# Altium footprint library TH resistors.PcbLib: 92 footprints (part 4 of 6)
Each footprint in its own frame and in the unit in brackets; x right, y up, seen from the top. Pads: shape width x height; smd on the part's side, far side on the other; paste and mask are expansions set on the pad; w line width, h text height; cw(c..) or ccw(c..) is an arc to the next point about the centre after c.
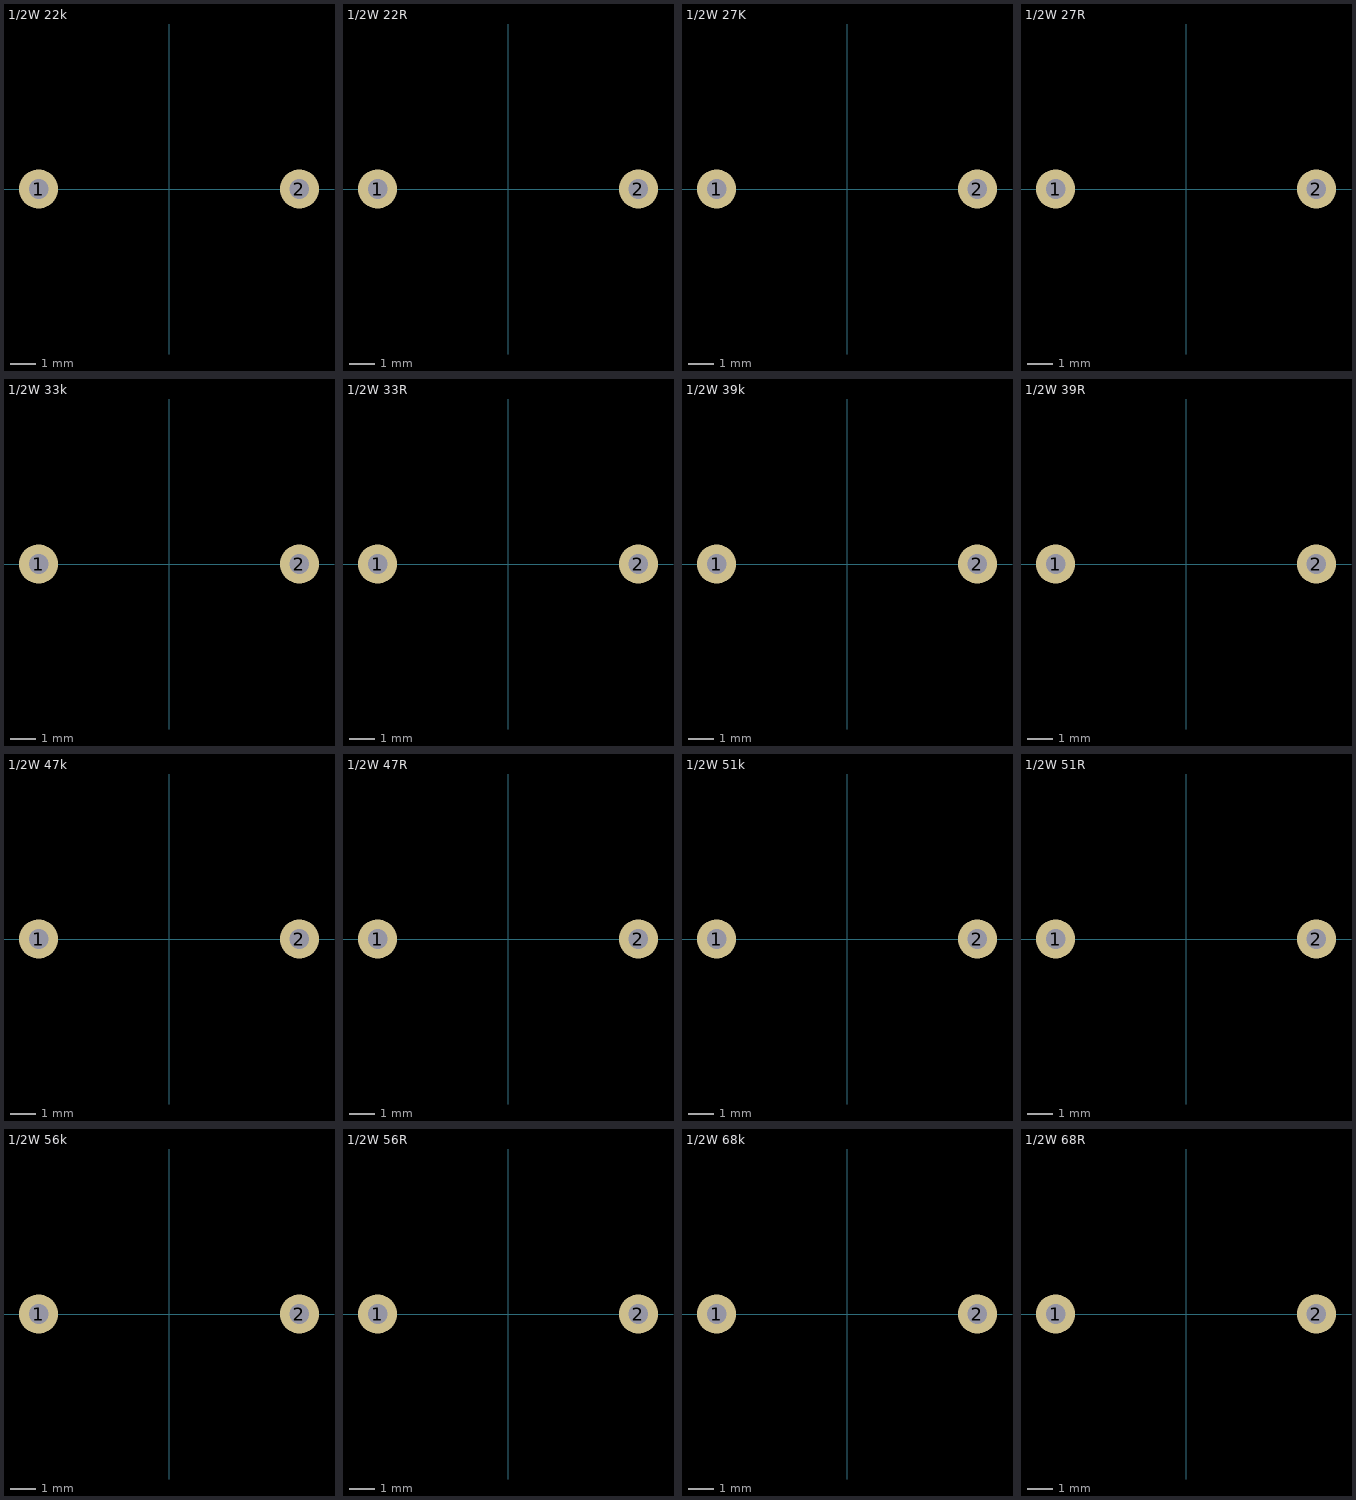
[diagram p3: the footprints below, top view; thin cyan lines are the x and y axes]

## 1/2W 22k [mil]
pads (2):
  round 60 hole 30: 1(-200,0) 2(200,0)
3D body "Resistor Axial 0.5W - Pitch 10.2mm (401.57mil) - 22K.STEP": height 59.06, standoff -206.69, extent -210.63,-59.06 210.63,59.06

## 1/2W 22R [mil]
pads (2):
  round 60 hole 30: 1(-200,0) 2(200,0)
3D body "Resistor Axial 0.5W - Pitch 10.2mm (401.57mil) - 22R.STEP": height 59.06, standoff -206.69, extent -210.63,-59.06 210.63,59.06

## 1/2W 27K [mil]
pads (2):
  round 60 hole 30: 1(-200,0) 2(200,0)
3D body "Resistor Axial 0.5W - Pitch 10.2mm (401.57mil) - 27K.STEP": height 59.06, standoff -206.69, extent -210.63,-59.06 210.63,59.06

## 1/2W 27R [mil]
pads (2):
  round 60 hole 30: 1(-200,0) 2(200,0)
3D body "Resistor Axial 0.5W - Pitch 10.2mm (401.57mil) - 27R.STEP": height 59.06, standoff -206.69, extent -210.63,-59.06 210.63,59.06

## 1/2W 33k [mil]
pads (2):
  round 60 hole 30: 1(-200,0) 2(200,0)
3D body "Resistor Axial 0.5W - Pitch 10.2mm (401.57mil) - 33K.STEP": height 59.06, standoff -206.69, extent -210.63,-59.06 210.63,59.06

## 1/2W 33R [mil]
pads (2):
  round 60 hole 30: 1(-200,0) 2(200,0)
3D body "Resistor Axial 0.5W - Pitch 10.2mm (401.57mil) - 33R.STEP": height 59.06, standoff -206.69, extent -210.63,-59.06 210.63,59.06

## 1/2W 39k [mil]
pads (2):
  round 60 hole 30: 1(-200,0) 2(200,0)
3D body "Resistor Axial 0.5W - Pitch 10.2mm (401.57mil) - 39K.STEP": height 59.06, standoff -206.69, extent -210.63,-59.06 210.63,59.06

## 1/2W 39R [mil]
pads (2):
  round 60 hole 30: 1(-200,0) 2(200,0)
3D body "Resistor Axial 0.5W - Pitch 10.2mm (401.57mil) - 39R.STEP": height 59.06, standoff -206.69, extent -210.63,-59.06 210.63,59.06

## 1/2W 47k [mil]
pads (2):
  round 60 hole 30: 1(-200,0) 2(200,0)
3D body "Resistor Axial 0.5W - Pitch 10.2mm (401.57mil) - 47K.STEP": height 59.06, standoff -206.69, extent -210.63,-59.06 210.63,59.06

## 1/2W 47R [mil]
pads (2):
  round 60 hole 30: 1(-200,0) 2(200,0)
3D body "Resistor Axial 0.5W - Pitch 10.2mm (401.57mil) - 47R.STEP": height 59.06, standoff -206.69, extent -210.63,-59.06 210.63,59.06

## 1/2W 51k [mil]
pads (2):
  round 60 hole 30: 1(-200,0) 2(200,0)
3D body "Resistor Axial 0.5W - Pitch 10.2mm (401.57mil) - 51K.STEP": height 59.06, standoff -206.69, extent -210.63,-59.06 210.63,59.06

## 1/2W 51R [mil]
pads (2):
  round 60 hole 30: 1(-200,0) 2(200,0)
3D body "Resistor Axial 0.5W - Pitch 10.2mm (401.57mil) - 51R.STEP": height 59.06, standoff -206.69, extent -210.63,-59.06 210.63,59.06

## 1/2W 56k [mil]
pads (2):
  round 60 hole 30: 1(-200,0) 2(200,0)
3D body "Resistor Axial 0.5W - Pitch 10.2mm (401.57mil) - 56K.STEP": height 59.06, standoff -206.69, extent -210.63,-59.06 210.63,59.06

## 1/2W 56R [mil]
pads (2):
  round 60 hole 30: 1(-200,0) 2(200,0)
3D body "Resistor Axial 0.5W - Pitch 10.2mm (401.57mil) - 56R.STEP": height 59.06, standoff -206.69, extent -210.63,-59.06 210.63,59.06

## 1/2W 68k [mil]
pads (2):
  round 60 hole 30: 1(-200,0) 2(200,0)
3D body "Resistor Axial 0.5W - Pitch 10.2mm (401.57mil) - 68K.STEP": height 59.06, standoff -206.69, extent -210.63,-59.06 210.63,59.06

## 1/2W 68R [mil]
pads (2):
  round 60 hole 30: 1(-200,0) 2(200,0)
3D body "Resistor Axial 0.5W - Pitch 10.2mm (401.57mil) - 68R.STEP": height 59.06, standoff -206.69, extent -210.63,-59.06 210.63,59.06